# EAGLE library part RASPBERRY-PI_REV2 (library RaspberryPi)
Raspberry Pi Board <http://www.raspberrypi.org/> Jacques Lagnel V1.0 (beta) 2012 Mateusz Bawaj V1.1 (beta) 2012 Board dimension: Forum 3D model <http://www.raspberrypi.org/forum/general-discussion/mechanical-profile-3d-models?value=3d%20model&type=1&include=1&search=1&ret=all> The GPIO Connector (P1): http://elinux.org/RPi_Low-level_peripherals The GPIO Connector (P5): http://www.raspberrypi-spy.co.uk/2012/09/raspberry-pi-p5-header/
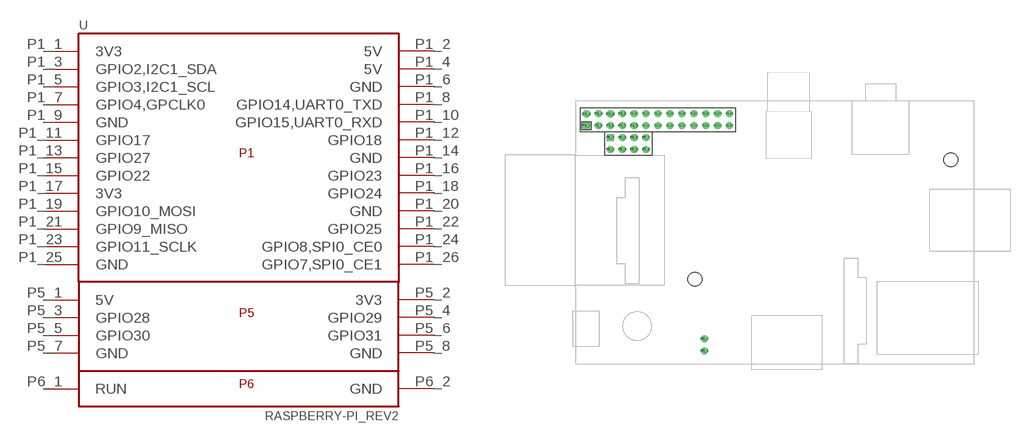
[diagram p1: symbol with the pads of RASPBERRY-PI_REV2; footprint RASPBERRY-PI_REV2]

Designator prefix -

## RASPBERRY-PI_REV2  [RASPBERRY-PI_REV2]
P1_1  3V3
P1_2  5V
P1_3  GPIO2,I2C1_SDA
P1_4  5V
P1_5  GPIO3,I2C1_SCL
P1_6  GND
P1_7  GPIO4,GPCLK0
P1_8  GPIO14,UART0_TXD
P1_9  GND
P1_10  GPIO15,UART0_RXD
P1_11  GPIO17
P1_12  GPIO18
P1_13  GPIO27
P1_14  GND
P1_15  GPIO22
P1_16  GPIO23
P1_17  3V3
P1_18  GPIO24
P1_19  GPIO10_MOSI
P1_20  GND
P1_21  GPIO9_MISO
P1_22  GPIO25
P1_23  GPIO11_SCLK
P1_24  GPIO8,SPI0_CE0
P1_25  GND
P1_26  GPIO7,SPI0_CE1
P5_1  5V
P5_2  3V3
P5_3  GPIO28
P5_4  GPIO29
P5_5  GPIO30
P5_6  GPIO31
P5_7  GND
P5_8  GND
P6_1  RUN
P6_2  GND

## Footprint RASPBERRY-PI_REV2 (pad centres in mm)
drill 1 square: P1_1 2.39,50.72; P5_1 7.47,48.18
drill 1 pad 1.676: P1_2 2.39,53.26; P1_6 7.47,53.26
drill 1: P1_3 4.93,50.72; P1_4 4.93,53.26; P1_5 7.47,50.72; P1_7 10.01,50.72; P1_8 10.01,53.26; P1_9 12.55,50.72; P1_10 12.55,53.26; P1_11 15.09,50.72; P1_12 15.09,53.26; P1_13 17.63,50.72; P1_14 17.63,53.26; P1_15 20.17,50.72; P1_16 20.17,53.26; P1_17 22.71,50.72; P1_18 22.71,53.26; P1_19 25.25,50.72; P1_20 25.25,53.26; P1_21 27.79,50.72; P1_22 27.79,53.26; P1_23 30.33,50.72; P1_24 30.33,53.26; P1_25 32.87,50.72; P1_26 32.87,53.26; P5_2 7.47,45.64; P5_3 10.01,48.18; P5_4 10.01,45.64; P5_5 12.55,48.18; P5_6 12.55,45.64; P5_7 15.09,48.18; P5_8 15.09,45.64; P6_1 27.53,2.703; P6_2 27.536,5.254
hole 2.9 at 79.99,43.495
hole 2.9 at 25.49,17.995